# EAGLE library part FUSB302B11MPX (library FUSB302B11MPX)
ON SEMICONDUCTOR - FUSB302B11MPX - USB TYPE-C CONTROLLER W/PD, MLP-14 Source: Datasheet <http://www.farnell.com/datasheets/2313408.pdf>
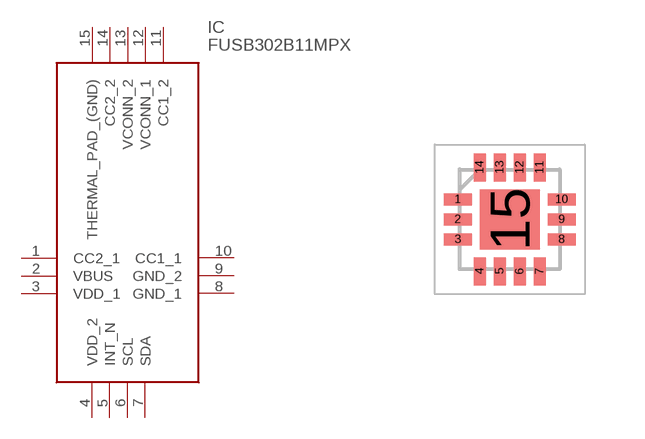
[diagram p0: symbol with the pads of QFN50P250X250X80-15N; footprint QFN50P250X250X80-15N]

Designator prefix IC

## FUSB302B11MPX (Arrow_Part_Number: FUSB302B11MPX; Arrow_Price-Stock: https://www.arrow.com/en/products/fusb302b11mpx/on-semiconductor?region=nac; Description: ON SEMICONDUCTOR - FUSB302B11MPX - USB TYPE-C CONTROLLER W/PD, MLP-14; Height: 0.8mm; Manufacturer_Name: onsemi; Manufacturer_Part_Number: FUSB302B11MPX; Mouser_Part_Number: 512-FUSB302B11MPX; Mouser_Price-Stock: https://www.mouser.co.uk/ProductDetail/onsemi-Fairchild/FUSB302B11MPX?qs=jFK2DQXLaBwFFZq6iARIyw%3D%3D)  [QFN50P250X250X80-15N]
1  CC2_1
2  VBUS
3  VDD_1
4  VDD_2
5  INT_N
6  SCL
7  SDA
8  GND_1
9  GND_2
10  CC1_1
11  CC1_2
12  VCONN_1
13  VCONN_2
14  CC2_2
15  THERMAL_PAD_(GND)

## Footprint QFN50P250X250X80-15N (pad centres in mm)
WQFN14 2.5x2.5, 0.5P CASE 510BR ISSUE O
smd 0.7 x 0.3: 1 -1.3,0.5; 2 -1.3,0; 3 -1.3,-0.5; 8 1.3,-0.5; 9 1.3,0; 10 1.3,0.5
smd 0.3 x 0.7: 4 -0.75,-1.3; 5 -0.25,-1.3; 6 0.25,-1.3; 7 0.75,-1.3; 11 0.75,1.3; 12 0.25,1.3; 13 -0.25,1.3; 14 -0.75,1.3
smd 1.5 x 1.5: 15 0,0